# Altium footprint library MacroPlay.PcbLib: 42 footprints (part 2 of 3)
Each footprint in its own frame and in the unit in brackets; x right, y up, seen from the top. Pads: shape width x height; smd on the part's side, far side on the other; paste and mask are expansions set on the pad; w line width, h text height; cw(c..) or ccw(c..) is an arc to the next point about the centre after c.
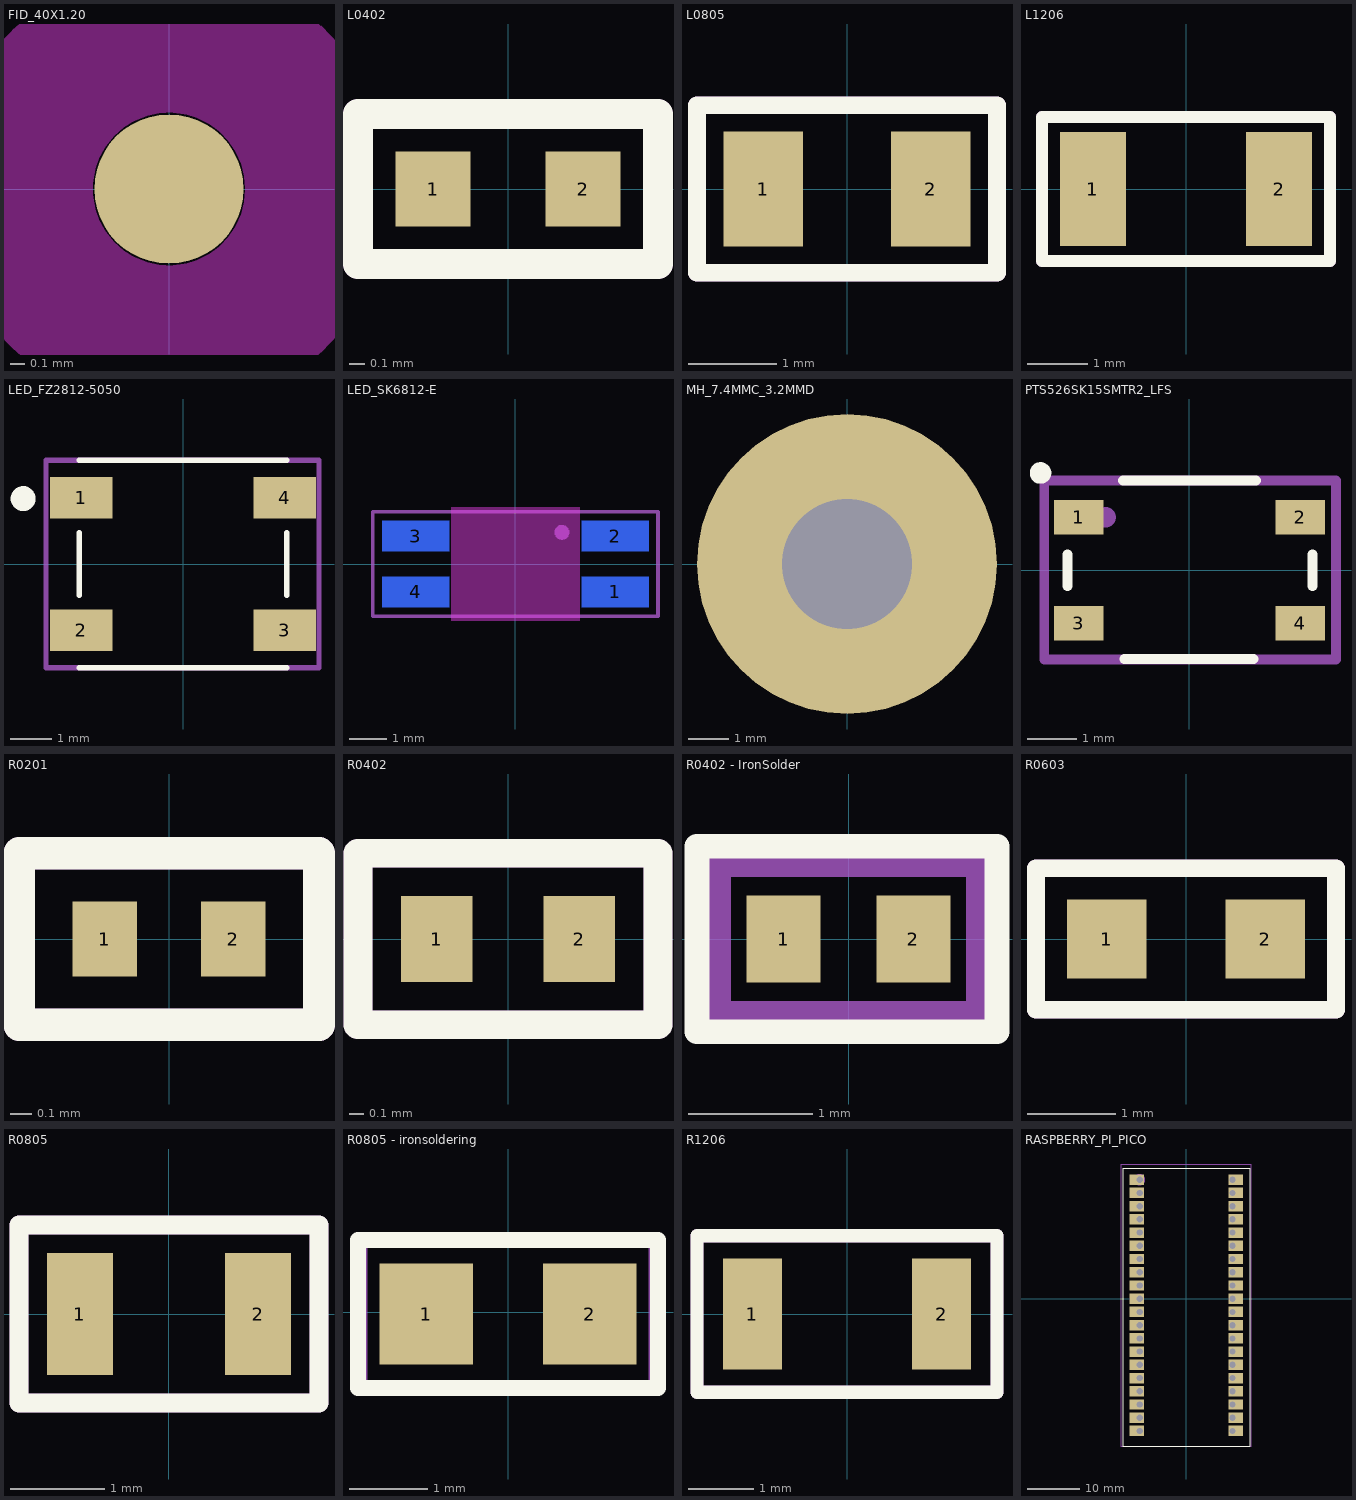
[diagram p1: the footprints below, top view; thin cyan lines are the x and y axes]

## FID_40X1.20 [mil]
pads (1):
  round 40 smd paste-40 mask+40: ""(0,0)
Top Layer keep-out:
  circle w39.37: c0,0 r40.16

## L0402 [mm]
pads (2):
  rect 0.5x0.5 smd: 1(-0.5,0) 2(0.5,0)
Top Overlay:
  lines w0.2: -1,-0.5 -1,0.5 1,0.5 1,-0.5 -1,-0.5
Mechanical 29:
  lines w0.2: -1,-0.5 1,-0.5 1,0.5 -1,0.5 -1,-0.5
  text "'.Designator'" at -0.75,-0.169 h0.5
3D body "L0805.step": height 0.51, standoff 0.01, extent -0.5,-0.3 0.5,0.3

## L0805 [mm]
pads (2):
  rect 0.9x1.3 smd: 1(-0.95,0) 2(0.95,0)
Top Overlay:
  lines w0.2: -1.7,-0.95 -1.7,0.95 1.7,0.95 1.7,-0.95 -1.7,-0.95
Mechanical 29:
  lines w0.2: -1.7,-0.95 1.7,-0.95 1.7,0.95 -1.7,0.95 -1.7,-0.95
  text "'.Designator'" at -1.3,-0.4 h0.85
3D body "L0805.step": height 1.05, standoff 0, extent -1,-0.625 1,0.625

## L1206 [mm] "Chip Capacitor, 2-Leads, Body 3.20x1.60mm, IPC Medium Density"
height 0.95
pads (2):
  rect 1.1x1.9 smd: 1(-1.55,0) 2(1.55,0)
Top Overlay:
  lines w0.2: -2.4,-1.2 2.4,-1.2 2.4,1.2 -2.4,1.2 -2.4,-1.2
Mechanical 29:
  lines w0.2: -2.4,-1.2 -2.4,1.2 2.4,1.2 2.4,-1.2 -2.4,-1.2
  text "'.Designator'" at -1.4,-0.5 h1
3D body "L1206.step": height 1.1, standoff 0, extent -1.7,-0.9 1.7,0.9

## LED_FZ2812-5050 [mm]
height 1.6
pads (4):
  rect 1.5x1 smd mask+0.08: 1(-2.45,1.6) 2(-2.45,-1.6) 3(2.45,-1.6) 4(2.45,1.6)
Top Overlay:
  circle w0.4: c-3.85,1.575 r0.1
  lines w0.127: -2.5,-2.5 2.5,-2.5 ; -2.5,-0.75 -2.5,0.75 ; -2.5,2.5 2.5,2.5 ; 2.5,-0.75 2.5,0.75
Mechanical 29:
  circle w0.2: c-2.5,1.6 r0.1
  lines w0.127: -3.3,-2.5 3.275,-2.5 3.275,2.5 -3.3,2.5 -3.3,-2.5
  text "'.Designator'" at -0.75,-0.075 h1
3D body "FZ2812-5050 (1).stp": height 1.7, standoff 0, extent -2.7,-2.5 2.65,2.45

## LED_SK6812-E [mm]
height 0.84
pads (4):
  rect 1.8x0.82 smd far side paste+0 mask+0.102: 1(2.675,-0.75) 2(2.675,0.75) 3(-2.675,0.75) 4(-2.675,-0.75)
Bottom Overlay:
  circle w0.254: c-4.15,0.725 r0.071
Keep-Out Layer:
  board cut-out: 1.725,1.525 1.725,-1.525 -1.725,-1.525 -1.725,1.525
Mechanical 29:
  circle w0.2: c1.25,0.85 r0.1
  lines w0.1: -3.825,-1.4 -3.825,1.4 3.825,1.4 3.825,-1.4 -3.825,-1.4
  text "'.Designator'" at -0.775,-0.05 h1
3D body "step_temp.STEP": height 0.94, standoff -0.84, extent -2.915,-1.4 2.965,1.4

## MH_7.4MMC_3.2MMD [mm]
pads (1):
  round 7.4 hole 3.2: ""(0,0)

## PTS526SK15SMTR2_LFS [mm]
pads (4):
  rect 1x0.7 smd mask+0.07: 1(-2.25,1.075) 2(2.25,1.075) 3(-2.25,-1.075) 4(2.25,-1.075)
Top Overlay:
  circle w0.254: c-3.025,1.975 r0.092
  lines w0.2: -2.475,-0.325 -2.475,0.325 ; -1.35,1.825 1.35,1.825 ; -1.325,-1.8 1.3,-1.8 ; 2.5,-0.325 2.5,0.325
Mechanical 29:
  circle w0.254: c-1.704,1.075 r0.08
  lines w0.2: -2.95,-1.813 -2.95,1.825 2.975,1.825 2.975,-1.813 -2.95,-1.813
  text "'.Designator'" at -0.838,-0.051 h1
3D body "PTS815SJM250SMTRLFS.stp": height 2.5, standoff 0, extent -2.253,-1.592 2.247,1.608

## R0201 [mm]
pads (2):
  rect 0.3x0.35 smd mask+0.06: 1(-0.3,0) 2(0.3,0)
Top Overlay:
  lines w0.15: -0.7,-0.4 0.7,-0.4 0.7,0.4 -0.7,0.4 -0.7,-0.4
Mechanical 29:
  lines w0.15: -0.7,-0.4 -0.7,0.4 0.7,0.4 0.7,-0.4 -0.7,-0.4
  text "'.Designator'" at -0.4,-0.1 h0.2
3D body "C0201.step": height 0.3, standoff 0, extent -0.3,-0.15 0.3,0.15

## R0402 [mm]
pads (2):
  rect 0.5x0.6 smd: 1(-0.5,0) 2(0.5,0)
Top Overlay:
  lines w0.2: -1.05,-0.6 -1.05,0.6 1.05,0.6 1.05,-0.6 -1.05,-0.6
Mechanical 29:
  lines w0.2: -1.05,-0.6 -1.05,0.6 1.05,0.6 1.05,-0.6 -1.05,-0.6
  text "'.Designator'" at -0.75,-0.223 h0.5
3D body "R0402.step": height 0.41, standoff 0.01, extent -0.5,-0.25 0.5,0.25

## R0402 - IronSolder [mm] "R0402 but easier to solder with iron solder instead of an furnace or heat bed"
pads (2):
  rect 0.6x0.7 smd mask+0: 1(-0.525,0) 2(0.525,0)
Top Overlay:
  lines w0.2: -1.225,-0.75 -1.225,0.75 1.2,0.75 1.2,-0.75 -1.225,-0.75
Mechanical 29:
  lines w0.2: -1.05,-0.6 -1.05,0.6 1.05,0.6 1.05,-0.6 -1.05,-0.6
  text "'.Designator'" at -0.75,-0.223 h0.5
3D body "R0402.step": height 0.41, standoff 0.01, extent -0.5,-0.25 0.5,0.25

## R0603 [mm]
height 0.9
pads (2):
  rect 0.9x0.9 smd: 1(-0.9,0) 2(0.9,0)
Top Overlay:
  lines w0.2: -1.7,-0.8 -1.7,0.8 1.7,0.8 1.7,-0.8 -1.7,-0.8
Mechanical 29:
  lines w0.2: -1.7,-0.8 1.7,-0.8 1.7,0.8 -1.7,0.8 -1.7,-0.8
  text "'.Designator'" at -1.3,-0.4 h0.8
3D body "R0603.stp": height 0.46, standoff 0.01, extent -0.775,-0.4 0.775,0.4

## R0805 [mm]
pads (2):
  rect 0.7x1.3 smd: 1(-0.95,0) 2(0.95,0)
Top Overlay:
  lines w0.2: -1.6,-0.95 1.6,-0.95 1.6,0.95 -1.6,0.95 -1.6,-0.95
Mechanical 29:
  lines w0.2: -1.6,-0.95 1.6,-0.95 1.6,0.95 -1.6,0.95 -1.6,-0.95
  text "'.Designator'" at -0.6,-0.347 h0.85
3D body "R0805.step": height 0.61, standoff 0.01, extent -1,-0.6 1,0.6

## R0805 - ironsoldering [mm]
pads (2):
  rect 1.2x1.3 smd: 1(-1.05,-0.025) 2(1.05,-0.025)
Top Overlay:
  lines w0.2: -1.925,-0.975 -1.925,0.925 1.925,0.925 1.925,-0.975 -1.925,-0.975
Mechanical 29:
  lines w0.2: -1.9,-0.975 1.9,-0.975 1.9,0.925 -1.9,0.925 -1.9,-0.975
  text "'.Designator'" at -1.2,-0.425 h0.85
3D body "R0805.step": height 0.61, standoff 0.01, extent -1.05,-0.625 0.95,0.575

## R1206 [mm]
pads (2):
  rect 0.9x1.7 smd: 1(-1.45,0) 2(1.45,0)
Top Overlay:
  lines w0.2: -2.3,-1.2 2.3,-1.2 2.3,1.2 -2.3,1.2 -2.3,-1.2
Mechanical 29:
  lines w0.2: -2.3,-1.2 -2.3,1.2 2.3,1.2 2.3,-1.2 -2.3,-1.2
  text "'.Designator'" at -1.5,-0.5 h1
3D body "R1206.stp": height 0.56, standoff 0.01, extent -1.6,-0.8 1.6,0.8

## RASPBERRY_PI_PICO [mm]
pads (80):
  rect 1.508x2 / inner round 1.508 / far side rect 1.508x1.508 hole 1.2 mask+0.1: 3V3(8.89,12.7) 3V3_EN(8.89,15.24) ADC_VREF(8.89,10.16) AGND(8.89,5.08) GND(-8.89,-20.32) GND(-8.89,-7.62) GND(-8.89,5.08) GND(-8.89,17.78) GND(8.89,-20.32) GND(8.89,-7.62) GND(8.89,17.78) GP0(-8.89,22.86) GP1(-8.89,20.32) GP2(-8.89,15.24) GP3(-8.89,12.7) GP4(-8.89,10.16) GP5(-8.89,7.62) GP6(-8.89,2.54) GP7(-8.89,0) GP8(-8.89,-2.54) GP9(-8.89,-5.08) GP10(-8.89,-10.16) GP11(-8.89,-12.7) GP12(-8.89,-15.24) GP13(-8.89,-17.78) GP14(-8.89,-22.86) GP15(-8.89,-25.4) GP16(8.89,-25.4) GP17(8.89,-22.86) GP18(8.89,-17.78) GP19(8.89,-15.24) GP20(8.89,-12.7) GP21(8.89,-10.16) GP22(8.89,-5.08) GP26_A0(8.89,0) GP27_A1(8.89,2.54) GP28_A2(8.89,7.62) RUN(8.89,-2.54) VBUS(8.89,22.86) VSYS(8.89,20.32)
  rect 1.5x2 smd mask+0.1: 3V3(10.156,12.7) 3V3_EN(10.156,15.241) ADC_VREF(10.156,10.16) AGND(10.156,5.08) GND(-10.156,-20.32) GND(-10.156,-7.62) GND(-10.156,5.08) GND(-10.156,17.78) GND(10.156,-20.32) GND(10.156,-7.62) GND(10.156,17.78) GP0(-10.156,22.86) GP1(-10.156,20.32) GP2(-10.156,15.24) GP3(-10.156,12.7) GP4(-10.156,10.16) GP5(-10.156,7.62) GP6(-10.156,2.54) GP7(-10.156,0) GP8(-10.156,-2.54) GP9(-10.156,-5.08) GP10(-10.156,-10.16) GP11(-10.156,-12.7) GP12(-10.156,-15.24) GP13(-10.156,-17.78) GP14(-10.156,-22.85) GP15(-10.156,-25.4) GP16(10.156,-25.4) GP17(10.156,-22.86) GP18(10.156,-17.78) GP19(10.156,-15.24) GP20(10.156,-12.7) GP21(10.156,-10.16) GP22(10.156,-5.08) GP26_A0(10.156,0) GP27_A1(10.156,2.54) GP28_A2(10.156,7.62) RUN(10.156,-2.54) VBUS(10.156,22.86) VSYS(10.156,20.325)
Top Overlay:
  lines w0.152: -12.175,-28.3 12.25,-28.3 12.25,25.05 -12.175,25.05 -12.175,-28.3
Mechanical 29:
  circle w2: c-8.977,22.86 r0.1
  lines w0.2: -12.575,-28.375 12.525,-28.375 12.525,25.875 -12.575,25.875 -12.575,-28.375
  text "'.Designator'" at -0.822,-0.214 h2
3D body "step_temp.STEP": height 5.73, standoff 2, extent -10.459,-26.773 10.541,25.527
3D body "77311-101-20LF--3DModel-STEP-510211.STEP": height 5.42, standoff -5.38, extent -9.98,-26.375 -7.57,24.025
3D body "77311-101-20LF--3DModel-STEP-510211.STEP": height 5.42, standoff -5.38, extent 7.795,-26.4 10.205,24